# Altium footprint library PCB.PCBLIB: 320 footprints (part 14 of 20)
Each footprint in its own frame and in the unit in brackets; x right, y up, seen from the top. Pads: shape width x height; smd on the part's side, far side on the other; paste and mask are expansions set on the pad; w line width, h text height; cw(c..) or ccw(c..) is an arc to the next point about the centre after c.
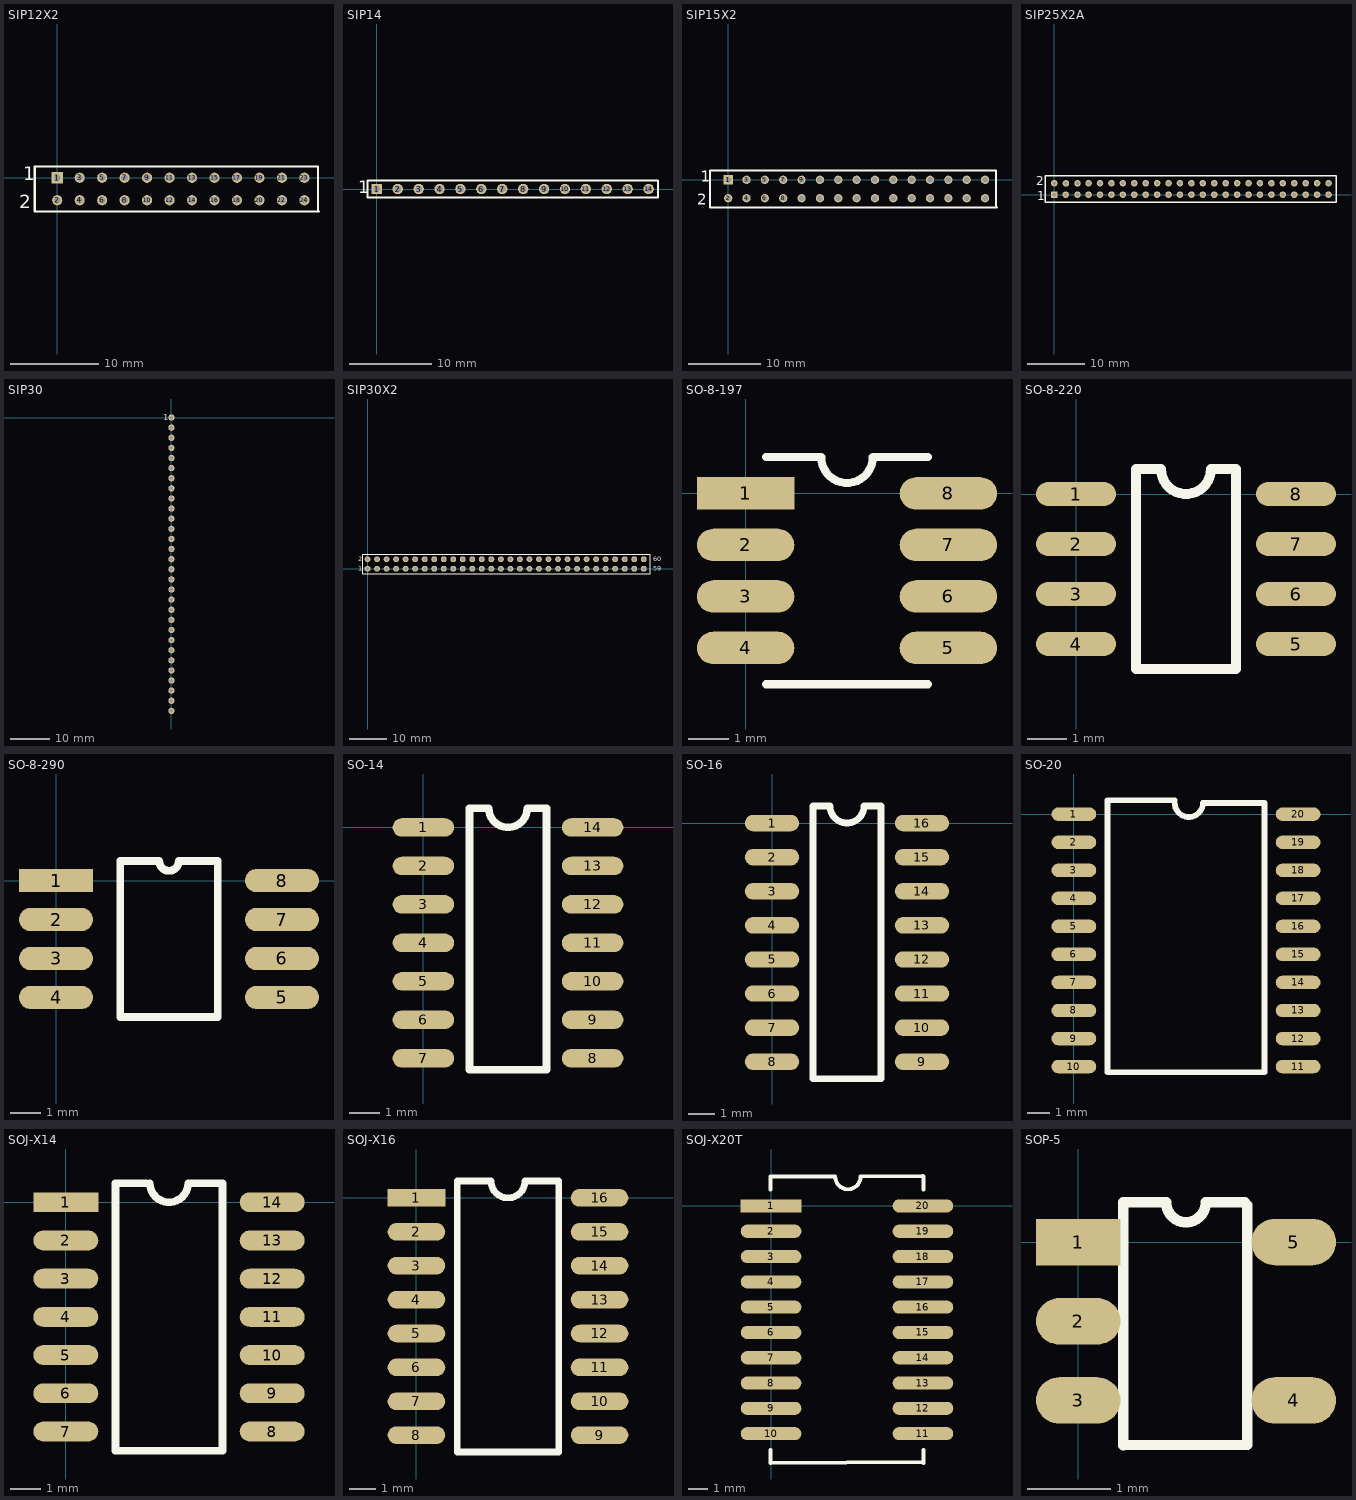
[diagram p13: the footprints below, top view; thin cyan lines are the x and y axes]

## SIP12X2 [mil]
pads (24):
  rect 50x50 hole 30: 1(0,0)
  round 45 hole 30: 2(0,-100) 3(100,0) 4(100,-100) 5(200,0) 6(200,-100) 7(300,0) 8(300,-100) 9(400,0) 10(400,-100) 11(500,0) 12(500,-100) 13(600,0) 14(600,-100) 15(700,0) 16(700,-100) 17(800,0) 18(800,-100) 19(900,0) 20(900,-100) 21(1000,0) 22(1000,-100) 23(1100,0) 24(1100,-100)
TopOverlay:
  lines w10: 1160,-145 1160,50 -100,50 -100,-150 1165,-150
  text "2" at -170,-135 h60
  text "1" at -150,-10 h60

## SIP14 [mil]
pads (14):
  rect 50x50 hole 32: 1(0,0)
  round 50 hole 32: 2(100,0) 3(200,0) 4(300,0) 5(400,0) 6(500,0) 7(600,0) 8(700,0) 9(800,0) 10(900,0) 11(1000,0) 12(1100,0) 13(1200,0) 14(1300,0)
TopOverlay:
  lines w10: -45,-40 -45,40 1345,40 1345,-40 -45,-40
  text "1" at -90,-20 h60

## SIP15X2 [mil]
pads (30):
  rect 50x50 hole 30: 1(0,0)
  round 45 hole 30: 2(0,-100) 3(100,0) 4(100,-100) 5(200,0) 6(200,-100) 7(300,0) 8(300,-100) 9(400,0) 10(400,-100) 11(500,0) 12(500,-100) 13(600,0) 14(600,-100) 15(700,0) 16(700,-100) 17(800,0) 18(800,-100) 19(900,0) 20(900,-100) 21(1000,0) 22(1000,-100) 23(1100,0) 24(1100,-100) 25(1200,0) 26(1200,-100) 27(1300,0) 28(1300,-100) 29(1400,0) 30(1400,-100)
TopOverlay:
  lines w10: -100,-150 1465,-150 1460,-145 1460,50 -100,50 -100,-150
  text "1" at -150,-10 h60
  text "2" at -170,-135 h60

## SIP25X2A [mil]
pads (50):
  rect 45x45 hole 25: 1(0,0)
  round 45 hole 25: 2(0,78.74) 3(78.74,0) 4(80,77.48) 5(160,0) 6(160,77.48) 7(236.22,0) 8(236.22,78.74) 9(314.96,0) 10(314.96,78.74) 11(393.7,0) 12(393.7,78.74) 13(472.44,0) 14(472.44,78.74) 15(551.18,0) 16(551.18,78.74) 17(629.92,0) 18(629.92,78.74) 19(708.66,0) 20(708.66,78.74) 21(787.4,0) 22(787.4,78.74) 23(866.14,0) 24(866.14,78.74) 25(944.88,0) 26(944.88,78.74) 27(1023.62,0) 28(1023.62,78.74) 29(1102.36,0) 30(1102.36,78.74) 31(1181.1,0) 32(1181.1,78.74) 33(1259.84,0) 34(1259.84,78.74) 35(1338.58,0) 36(1338.58,78.74) 37(1417.32,0) 38(1417.32,78.74) 39(1496.06,0) 40(1496.06,78.74) 41(1574.8,0) 42(1574.8,78.74) 43(1653.54,0) 44(1653.54,78.74) 45(1732.28,0) 46(1732.28,78.74) 47(1811.02,0) 48(1811.02,78.74) 49(1889.76,0) 50(1889.76,78.74)
TopOverlay:
  lines w10: -60.63,-51.26 -60.63,28.74 -60.63,128.74 1941.26,128.74 1941.26,8.74 1941.26,-51.26 -60.63,-51.26
  text "1" at -118.11,-39.37 h60
  text "2" at -125.98,62.99 h60

## SIP30 [mil]
pads (30):
  round 62 hole 35: 1(0,0) 2(0,-100) 3(0,-200) 4(0,-300) 5(0,-400) 6(0,-500) 7(0,-600) 8(0,-700) 9(0,-800) 10(0,-900) 11(0,-1000) 12(0,-1100) 13(0,-1200) 14(0,-1300) 15(0,-1400) 16(0,-1500) 17(0,-1600) 18(0,-1700) 19(0,-1800) 20(0,-1900) 21(0,-2000) 22(0,-2100) 23(0,-2200) 24(0,-2300) 25(0,-2400) 26(0,-2500) 27(0,-2600) 28(0,-2700) 29(0,-2800) 30(0,-2900)
TopOverlay:
  text "1" at -80,-25 h60

## SIP30X2 [mil]
pads (60):
  oct 62x62 hole 35: 1(0,0)
  round 62 hole 35: 2(0,100) 3(100,0) 4(100,100) 5(200,0) 6(200,100) 7(300,0) 8(300,100) 9(400,0) 10(400,100) 11(500,0) 12(500,100) 13(600,0) 14(600,100) 15(700,0) 16(700,100) 17(800,0) 18(800,100) 19(900,0) 20(900,100) 21(1000,0) 22(1000,100) 23(1100,0) 24(1100,100) 25(1200,0) 26(1200,100) 27(1300,0) 28(1300,100) 29(1400,0) 30(1400,100) 31(1500,0) 32(1500,100) 33(1600,0) 34(1600,100) 35(1700,0) 36(1700,100) 37(1800,0) 38(1800,100) 39(1900,0) 40(1900,100) 41(2000,0) 42(2000,100) 43(2100,0) 44(2100,100) 45(2200,0) 46(2200,100) 47(2300,0) 48(2300,100) 49(2400,0) 50(2400,100) 51(2500,0) 52(2500,100) 53(2600,0) 54(2600,100) 55(2700,0) 56(2700,100) 57(2800,0) 58(2800,100) 59(2900,0) 60(2900,100)
TopOverlay:
  lines w8: -50,-50 2970,-50 2970,150 -50,150 -50,-50
  text "59" at 3000,-20 h50
  text "60" at 3000,80 h50
  text "1" at -100,-20 h50
  text "2" at -100,80 h50

## SO-8-197 [mm]
pads (8):
  rect 2.4x0.8 smd: 1(0,0)
  oval 2.4x0.8 smd: 2(0,-1.27) 3(0,-2.54) 4(0,-3.81) 5(5,-3.81) 6(5,-2.54) 7(5,-1.27) 8(5,0)
TopOverlay:
  lines w0.2: 0.5,-4.705 4.5,-4.705 ; 0.5,0.895 1.865,0.895 ccw(c2.5,0.895) 3.135,0.895 4.5,0.895

## SO-8-220 [mil]
pads (8):
  oval 80x24 smd: 1(0,0) 2(0,-50) 3(0,-100) 4(0,-150) 5(220,-150) 6(220,-100) 7(220,-50) 8(220,0)
TopOverlay:
  lines w10: 60,-175 160,-175 160,25 135,25 cw(c110,25) 85,25 60,25 60,-175

## SO-8-290 [mil]
pads (8):
  rect 95x30 smd: 1(0,0)
  oval 95x30 smd: 2(0,-50) 3(0,-100) 4(0,-150) 5(290,-150) 6(290,-100) 7(290,-50) 8(290,0)
TopOverlay:
  lines w10: 82.5,-175 82.5,25 132.5,25 ccw(c145,25) 157.5,25 207.5,25 207.5,-175 82.5,-175

## SO-14 [mil]
pads (14):
  oval 80x24 smd: 1(0,0) 2(0,-50) 3(0,-100) 4(0,-150) 5(0,-200) 6(0,-250) 7(0,-300) 8(220,-300) 9(220,-250) 10(220,-200) 11(220,-150) 12(220,-100) 13(220,-50) 14(220,0)
TopOverlay:
  lines w10: 60,-315 60,25 85,25 ccw(c110,25) 135,25 160,25 160,-315 60,-315

## SO-16 [mil]
pads (16):
  oval 80x24 smd: 1(0,0) 2(0,-50) 3(0,-100) 4(0,-150) 5(0,-200) 6(0,-250) 7(0,-300) 8(0,-350) 9(220,-350) 10(220,-300) 11(220,-250) 12(220,-200) 13(220,-150) 14(220,-100) 15(220,-50) 16(220,0)
TopOverlay:
  lines w10: 60,-375 60,25 85,25 ccw(c110,25) 135,25 160,25 160,-375 60,-375

## SO-20 [mil]
pads (20):
  oval 80x24 smd: 1(0,0) 2(0,-50) 3(0,-100) 4(0,-150) 5(0,-200) 6(0,-250) 7(0,-300) 8(0,-350) 9(0,-400) 10(0,-450) 11(400,-450) 12(400,-400) 13(400,-350) 14(400,-300) 15(400,-250) 16(400,-200) 17(400,-150) 18(400,-100) 19(400,-50) 20(400,0)
TopOverlay:
  lines w10: 180,20 ccw(c205,20) 230,20 340,20 340,-460 60,-460 60,25 180,25

## SOJ-X14 [mil]
pads (14):
  rect 85x26 smd: 1(0,0)
  oval 85x26 smd: 2(0,-50) 3(0,-100) 4(0,-150) 5(0,-200) 6(0,-250) 7(0,-300) 8(270,-300) 9(270,-250) 10(270,-200) 11(270,-150) 12(270,-100) 13(270,-50) 14(270,0)
TopOverlay:
  lines w10: 105,25 65,25 65,-325 205,-325 205,25 160,25 cw(c135,25) 110,25

## SOJ-X16 [mil]
pads (16):
  rect 85x26 smd: 1(0,0)
  oval 85x26 smd: 2(0,-50) 3(0,-100) 4(0,-150) 5(0,-200) 6(0,-250) 7(0,-300) 8(0,-350) 9(270,-350) 10(270,-300) 11(270,-250) 12(270,-200) 13(270,-150) 14(270,-100) 15(270,-50) 16(270,0)
TopOverlay:
  lines w10: 60,-375 210,-375 210,25 160,25 cw(c135,25) 110,25 60,25 60,-375

## SOJ-X20T [mil]
pads (20):
  rect 120x26 smd: 1(0,0)
  oval 120x26 smd: 2(0,-50) 3(0,-100) 4(0,-150) 5(0,-200) 6(0,-250) 7(0,-300) 8(0,-350) 9(0,-400) 10(0,-450) 11(300,-450) 12(300,-400) 13(300,-350) 14(300,-300) 15(300,-250) 16(300,-200) 17(300,-150) 18(300,-100) 19(300,-50) 20(300,0)
TopOverlay:
  lines w7.87: -0.83,-482.48 -0.83,-507.87 300,-506 ; -0.83,32.48 -0.83,57.87 126.73,57.87 ccw(c151.73,57.87) 176.73,57.87 300,59 ; 300.83,-507.87 300.83,-482.48 ; 300.83,32.48 300.83,57.87

## SOP-5 [mil]
pads (5):
  rect 40x22 smd: 1(0,0)
  oval 40x22 smd: 2(0,-37.5) 3(0,-75) 4(102,-75) 5(102,0)
TopOverlay:
  lines w5: 78.75,18.75 60.38,18.75 cw(c51,18.75) 41.62,18.75 21.25,18.75 21.25,-96.25 80,-96 80,17.5